# Altium footprint library Lagenfenster_2Layer.PcbLib: 1 footprints
Each footprint in its own frame and in the unit in brackets; x right, y up, seen from the top. Pads: shape width x height; smd on the part's side, far side on the other; paste and mask are expansions set on the pad; w line width, h text height; cw(c..) or ccw(c..) is an arc to the next point about the centre after c.
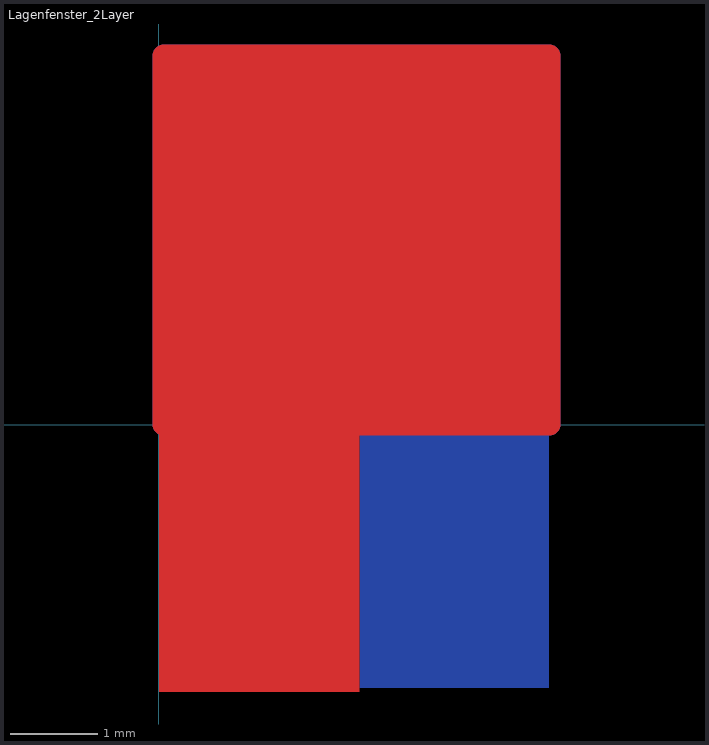
[diagram p0: the footprint, top view; thin cyan lines are the x and y axes]

## Lagenfenster_2Layer [mm]
Top Layer:
  rectangle: 0,-3.048 2.286,-0.048
  pour cut-out: 0.054,4.2 4.445,4.2 4.445,0 0.054,0
  lines w0.254: 0.054,0 0.054,4.2 4.445,4.2 4.445,0 0.054,0
  text "TOP" at 0.562,2.413 h1.2
Bottom Layer:
  rectangle: 2.286,-3 4.445,0
  pour cut-out: 0.054,4.2 4.445,4.2 4.445,0 0.054,0
  lines w0.254: 0.054,0 0.054,4.2 4.445,4.2 4.445,0 0.054,0
  text "BOT" at 3.81,0.635 h1.2